# Altium footprint library Connectrors.PcbLib: 13 footprints
Each footprint in its own frame and in the unit in brackets; x right, y up, seen from the top. Pads: shape width x height; smd on the part's side, far side on the other; paste and mask are expansions set on the pad; w line width, h text height; cw(c..) or ccw(c..) is an arc to the next point about the centre after c.
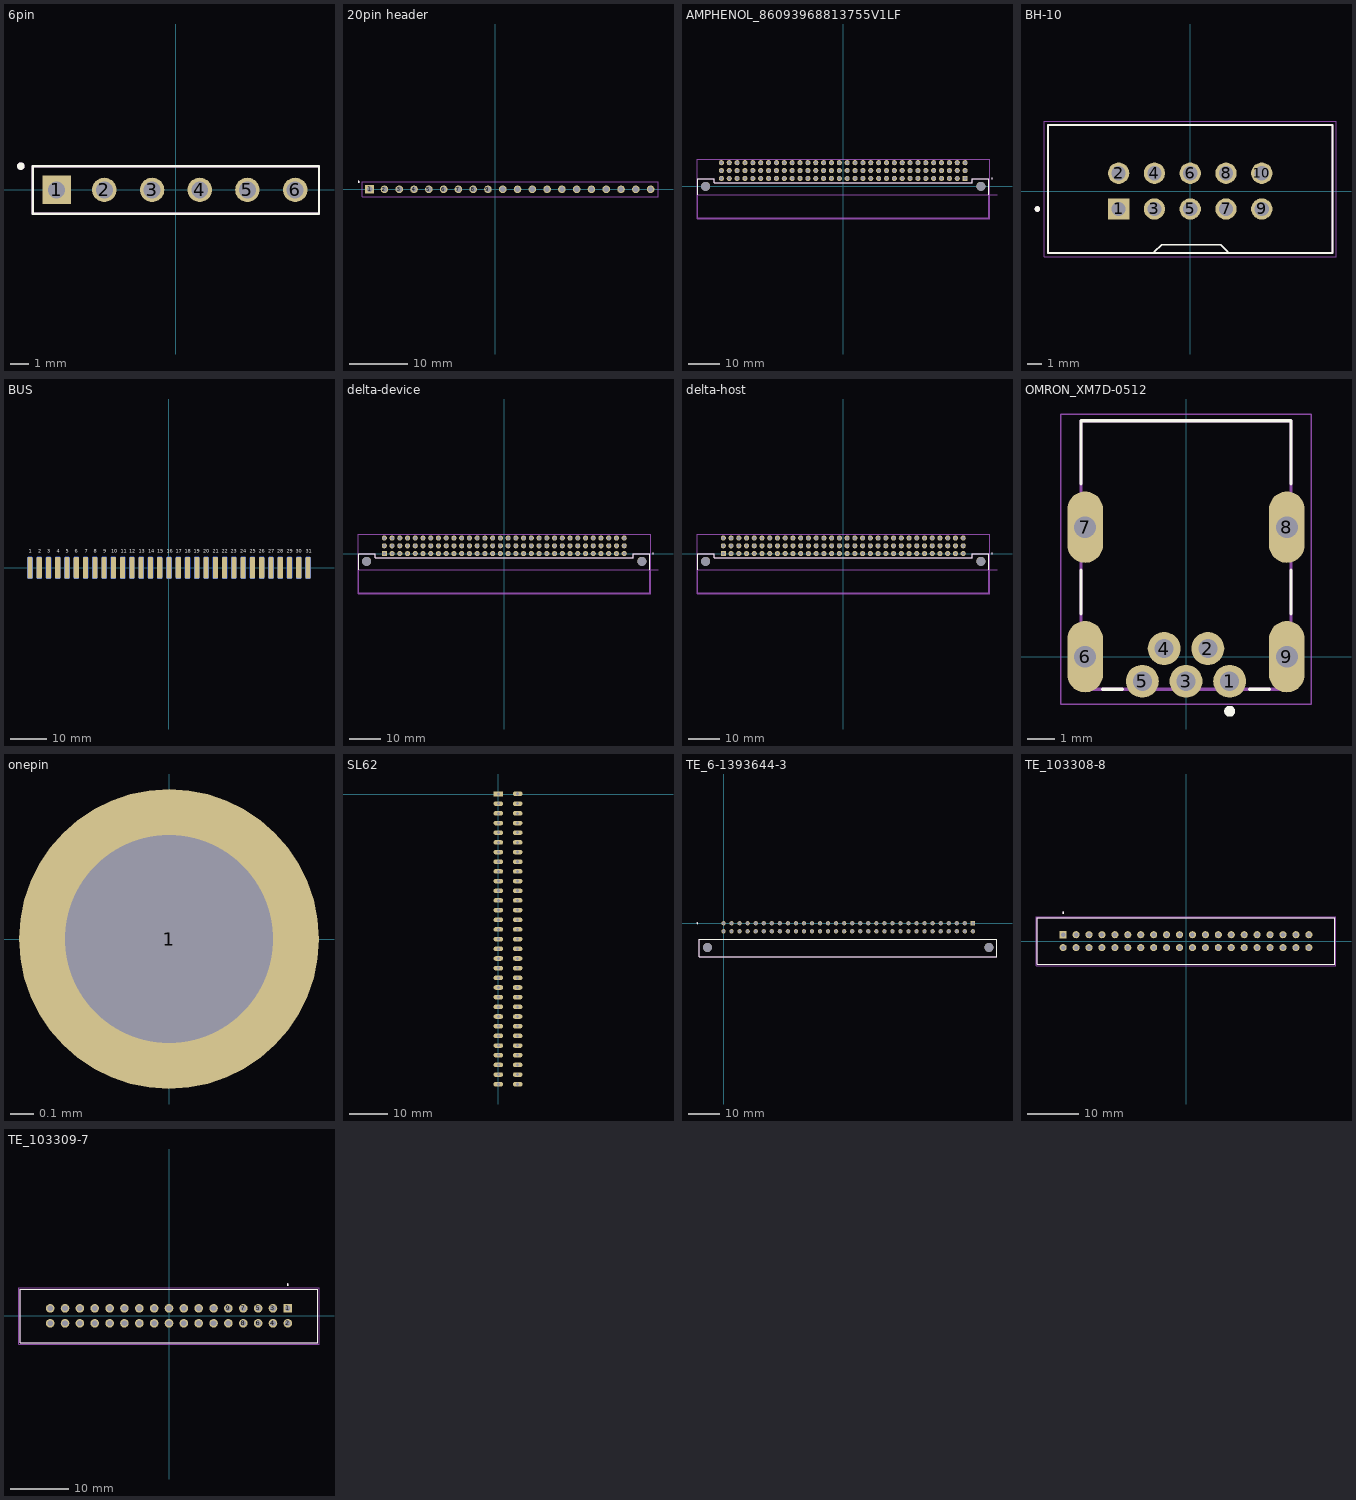
[diagram p0: the footprints below, top view; thin cyan lines are the x and y axes]

## 6pin [mm]
pads (6):
  rect 1.524x1.524 hole 0.9: 1(-6.35,0)
  round 1.3 hole 0.9: 2(-3.81,0) 3(-1.27,0) 4(1.27,0) 5(3.81,0) 6(6.35,0)
Top Overlay:
  circle w0.2: c-8.255,1.27 r0.1
  lines w0.127: -7.62,-1.27 7.62,-1.27 7.62,1.27 -7.62,1.27 -7.62,-1.27
Mechanical 13:
  circle w0.2: c-8.255,1.27 r0.1
  lines w0.127: -7.62,-1.27 7.62,-1.27 7.62,1.27 -7.62,1.27 -7.62,-1.27
Mechanical 15:
  lines w0.05: -7.62,-1.27 7.62,-1.27 7.62,1.27 -7.62,1.27 -7.62,-1.27

## 20pin header [mm]
pads (20):
  rect 1.524x1.524 hole 0.9: 1(-21.59,0)
  round 1.3 hole 0.9: 2(-19.05,0) 3(-16.51,0) 4(-13.97,0) 5(-11.43,0) 6(-8.89,0) 7(-6.35,0) 8(-3.81,0) 9(-1.27,0) 10(1.27,0) 11(3.81,0) 12(6.35,0) 13(8.89,0) 14(11.43,0) 15(13.97,0) 16(16.51,0) 17(19.05,0) 18(21.59,0) 19(24.13,0) 20(26.67,0)
Top Overlay:
  circle w0.2: c-23.495,1.27 r0.1
Bottom Overlay:
  lines w0.127: -22.86,-1.27 -22.86,1.27 27.94,1.27 27.94,-1.27 -22.86,-1.27
Mechanical 13:
  circle w0.2: c-23.495,1.27 r0.1
  lines w0.127: -22.86,-1.27 27.94,-1.27 27.94,1.27 -22.86,1.27 -22.86,-1.27
Mechanical 15:
  lines w0.05: 2.54,-1.27 17.78,-1.27 ; -22.86,-1.27 -22.86,1.27 27.94,1.27 27.94,-1.27 -22.86,-1.27
3D body "20pin_header.stp": height 0.98, standoff -10.7, extent -22.86,-1.27 27.94,1.27

## AMPHENOL_86093968813755V1LF [mm]
height 10.6
pads (98):
  rect 1.65x1.65 / inner round 1.65 / far side rect 1.65x1.65 hole 1.1: A1(39.37,2.54)
  round 1.65 hole 1.1: A2(36.83,2.54) A3(34.29,2.54) A4(31.75,2.54) A5(29.21,2.54) A6(26.67,2.54) A7(24.13,2.54) A8(21.59,2.54) A9(19.05,2.54) A10(16.51,2.54) A11(13.97,2.54) A12(11.43,2.54) A13(8.89,2.54) A14(6.35,2.54) A15(3.81,2.54) A16(1.27,2.54) A17(-1.27,2.54) A18(-3.81,2.54) A19(-6.35,2.54) A20(-8.89,2.54) A21(-11.43,2.54) A22(-13.97,2.54) A23(-16.51,2.54) A24(-19.05,2.54) A25(-21.59,2.54) A26(-24.13,2.54) A27(-26.67,2.54) A28(-29.21,2.54) A29(-31.75,2.54) A30(-34.29,2.54) A31(-36.83,2.54) A32(-39.37,2.54) B1(39.37,5.08) B2(36.83,5.08) B3(34.29,5.08) B4(31.75,5.08) B5(29.21,5.08) B6(26.67,5.08) B7(24.13,5.08) B8(21.59,5.08) B9(19.05,5.08) B10(16.51,5.08) B11(13.97,5.08) B12(11.43,5.08) B13(8.89,5.08) B14(6.35,5.08) B15(3.81,5.08) B16(1.27,5.08) B17(-1.27,5.08) B18(-3.81,5.08) B19(-6.35,5.08) B20(-8.89,5.08) B21(-11.43,5.08) B22(-13.97,5.08) B23(-16.51,5.08) B24(-19.05,5.08) B25(-21.59,5.08) B26(-24.13,5.08) B27(-26.67,5.08) B28(-29.21,5.08) B29(-31.75,5.08) B30(-34.29,5.08) B31(-36.83,5.08) B32(-39.37,5.08) C1(39.37,7.62) C2(36.83,7.62) C3(34.29,7.62) C4(31.75,7.62) C5(29.21,7.62) C6(26.67,7.62) C7(24.13,7.62) C8(21.59,7.62) C9(19.05,7.62) C10(16.51,7.62) C11(13.97,7.62) C12(11.43,7.62) C13(8.89,7.62) C14(6.35,7.62) C15(3.81,7.62) C16(1.27,7.62) C17(-1.27,7.62) C18(-3.81,7.62) C19(-6.35,7.62) C20(-8.89,7.62) C21(-11.43,7.62) C22(-13.97,7.62) C23(-16.51,7.62) C24(-19.05,7.62) C25(-21.59,7.62) C26(-24.13,7.62) C27(-26.67,7.62) C28(-29.21,7.62) C29(-31.75,7.62) C30(-34.29,7.62) C31(-36.83,7.62) C32(-39.37,7.62)
  round 2.9 hole 2.9 unplated: ""(-44.45,0) ""(44.45,0)
Top Overlay:
  circle w0.2: c48,2.54 r0.1
  lines w0.127: -47,-2.76 -47,2.5 -41.6,2.5 -41.6,1.2 41.6,1.2 41.6,2.5 47,2.5 47,-2.76
Mechanical 13:
  circle w0.2: c48,2.54 r0.1
  lines w0.127: 49.67,-2.76 -47,-2.76 ; -47,-2.76 -47,-10.2 47,-10.2 47,2.5 41.6,2.5 41.6,1.2 -41.6,1.2 -41.6,2.5 -47,2.5 -47,-2.76
  text "PCB Edge" at 47.5,-2.5 h0.81
Mechanical 15:
  lines w0.05: -47.25,-10.45 47.25,-10.45 47.25,8.695 -47.25,8.695 -47.25,-10.45
3D body "step_temp.STEP": height 9.15, standoff -2.97, extent -47.127,-9.906 46.873,7.939

## BH-10 [mm]
height 9.1
pads (10):
  rect 1.508x1.508 / inner round 1.508 / far side rect 1.508x1.508 hole 1: 1(-5.08,-1.27)
  round 1.508 hole 1: 2(-5.08,1.27) 3(-2.54,-1.27) 4(-2.54,1.27) 5(0,-1.27) 6(0,1.27) 7(2.54,-1.27) 8(2.54,1.27) 9(5.08,-1.27) 10(5.08,1.27)
Top Overlay:
  circle w0.2: c-10.85,-1.27 r0.1
  lines w0.127: -2.54,-4.318 -2.032,-3.81 -1.27,-3.81 1.27,-3.81 2.159,-3.81 2.667,-4.318 ; -10.1,-4.4 10.1,-4.4 10.1,4.7 -10.1,4.7 -10.1,-4.4
Mechanical 13:
  circle w0.2: c-10.85,-1.27 r0.1
  lines w0.127: -10.1,-4.4 10.1,-4.4 10.1,4.7 -10.1,4.7 -10.1,-4.4
Mechanical 15:
  lines w0.05: -10.35,-4.65 10.35,-4.65 10.35,4.95 -10.35,4.95 -10.35,-4.65
3D body "step_temp.STEP": height 9.09, standoff -3, extent -10.096,-4.394 10.096,4.699

## BUS [mm]
pads (62):
  rrect50% 1.4x6 smd: 1(-38.065,0) 2(-35.525,0) 3(-32.985,0) 4(-30.445,0) 5(-27.905,0) 6(-25.365,0) 7(-22.825,0) 8(-20.285,0) 9(-17.745,0) 10(-15.205,0) 11(-12.665,0) 12(-10.125,0) 13(-7.585,0) 14(-5.045,0) 15(-2.505,0) 16(0.035,0) 17(2.575,0) 18(5.115,0) 19(7.655,0) 20(10.195,0) 21(12.735,0) 22(15.275,0) 23(17.815,0) 24(20.355,0) 25(22.895,0) 26(25.435,0) 27(27.975,0) 28(30.515,0) 29(33.055,0) 30(35.595,0) 31(38.135,0)
  rrect50% 1.4x6 smd far side: 32(-38.06,0) 33(-35.525,0) 34(-32.985,0) 35(-30.445,0) 36(-27.905,0) 37(-25.365,0) 38(-22.825,0) 39(-20.285,0) 40(-17.745,0) 41(-15.205,0) 42(-12.665,0) 43(-10.125,0) 44(-7.585,0) 45(-5.045,0) 46(-2.505,0) 47(0.035,0) 48(2.575,0) 49(5.115,0) 50(7.655,0) 51(10.195,0) 52(12.735,0) 53(15.275,0) 54(17.815,0) 55(20.355,0) 56(22.895,0) 57(25.435,0) 58(27.975,0) 59(30.515,0) 60(33.055,0) 61(35.595,0) 62(38.135,0)
Top Overlay:
  text "17" at 1.905,4.064 h1
  text "18" at 4.318,4.064 h1
  text "20" at 9.398,4.064 h1
  text "19" at 6.858,4.064 h1
  text "23" at 17.018,4.064 h1
  text "24" at 19.558,4.064 h1
  text "22" at 14.478,4.064 h1
  text "21" at 12.065,4.064 h1
  text "29" at 32.258,4.064 h1
  text "30" at 34.798,4.064 h1
  text "31" at 37.465,4.064 h1
  text "27" at 27.178,4.064 h1
  text "28" at 29.718,4.064 h1
  text "26" at 24.638,4.064 h1
  text "25" at 22.098,4.064 h1
  text "9" at -18.034,4.064 h1
  text "10" at -15.748,4.064 h1
  text "12" at -10.795,4.064 h1
  text "11" at -13.208,4.064 h1
  text "15" at -3.175,4.064 h1
  text "16" at -0.635,4.064 h1
  text "14" at -5.715,4.064 h1
  text "13" at -8.255,4.064 h1
  text "5" at -28.194,4.064 h1
  text "6" at -25.781,4.064 h1
  text "8" at -20.574,4.064 h1
  text "7" at -23.114,4.064 h1
  text "3" at -33.274,4.064 h1
  text "4" at -30.734,4.064 h1
  text "2" at -35.814,4.064 h1
  text "1" at -38.354,4.064 h1
Bottom Overlay:
  text "25" at 23.749,4.064 h1
  text "28" at 31.369,4.064 h1
  text "22" at 16.129,4.064 h1
  text "19" at 8.255,4.064 h1
  text "12" at -9.271,4.064 h1
  text "31" at 38.735,4.064 h1
  text "30" at 36.449,4.064 h1
  text "29" at 33.909,4.064 h1
  text "26" at 26.289,4.064 h1
  text "27" at 28.829,4.064 h1
  text "24" at 21.209,4.064 h1
  text "23" at 18.669,4.064 h1
  text "21" at 13.462,4.064 h1
  text "20" at 11.049,4.064 h1
  text "16" at 0.889,4.064 h1
  text "17" at 3.302,4.064 h1
  text "13" at -6.731,4.064 h1
  text "14" at -4.318,4.064 h1
  text "15" at -1.651,4.064 h1
  text "11" at -12.065,4.064 h1
  text "10" at -14.351,4.064 h1
  text "7" at -22.479,4.064 h1
  text "8" at -19.939,4.064 h1
  text "4" at -30.099,4.064 h1
  text "3" at -32.639,4.064 h1
  text "18" at 5.715,4.064 h1
  text "9" at -17.399,4.064 h1
  text "6" at -25.146,4.064 h1
  text "5" at -27.559,4.064 h1
  text "2" at -35.179,4.064 h1
  text "1" at -37.973,4.064 h1

## delta-device [mm]
height 10.6
pads (98):
  rect 1.65x1.65 / inner round 1.65 / far side rect 1.65x1.65 hole 1.1: A1(-38.75,0)
  round 1.65 hole 1.1: A2(-36.25,0) A3(-33.75,0) A4(-31.25,0) A5(-28.75,0) A6(-26.25,0) A7(-23.75,0) A8(-21.25,0) A9(-18.75,0) A10(-16.25,0) A11(-13.75,0) A12(-11.25,0) A13(-8.75,0) A14(-6.25,0) A15(-3.75,0) A16(-1.27,0) A17(1.25,0) A18(3.75,0) A19(6.25,0) A20(8.75,0) A21(11.25,0) A22(13.75,0) A23(16.25,0) A24(18.75,0) A25(21.25,0) A26(23.75,0) A27(26.25,0) A28(28.75,0) A29(31.25,0) A30(33.75,0) A31(36.25,0) A32(38.75,0) B1(-38.75,2.5) B2(-36.25,2.5) B3(-33.75,2.5) B4(-31.25,2.5) B5(-28.75,2.5) B6(-26.25,2.5) B7(-23.75,2.5) B8(-21.25,2.5) B9(-18.75,2.5) B10(-16.25,2.5) B11(-13.75,2.5) B12(-11.25,2.5) B13(-8.75,2.5) B14(-6.25,2.5) B15(-3.75,2.5) B16(-1.25,2.5) B17(1.25,2.5) B18(3.75,2.5) B19(6.25,2.5) B20(8.75,2.5) B21(11.25,2.5) B22(13.75,2.5) B23(16.25,2.5) B24(18.75,2.5) B25(21.25,2.5) B26(23.75,2.5) B27(26.25,2.5) B28(28.75,2.5) B29(31.25,2.5) B30(33.75,2.5) B31(36.25,2.5) B32(38.75,2.5) C1(-38.75,5) C2(-36.25,5) C3(-33.75,5) C4(-31.25,5) C5(-28.75,5) C6(-26.25,5) C7(-23.75,5) C8(-21.25,5) C9(-18.75,5) C10(-16.25,5) C11(-13.75,5) C12(-11.25,5) C13(-8.75,5) C14(-6.25,5) C15(-3.75,5) C16(-1.25,5) C17(1.25,5) C18(3.75,5) C19(6.25,5) C20(8.75,5) C21(11.25,5) C22(13.75,5) C23(16.25,5) C24(18.75,5) C25(21.25,5) C26(23.75,5) C27(26.25,5) C28(28.75,5) C29(31.25,5) C30(33.75,5) C31(36.25,5) C32(38.75,5)
  round 2.9 hole 2.9 unplated: ""(-44.45,-2.5) ""(44.45,-2.5)
Top Overlay:
  circle w0.2: c48,0.04 r0.1
  lines w0.127: -47,-5.26 -47,0 -41.6,0 -41.6,-1.3 41.6,-1.3 41.6,0 47,0 47,-5.26
Mechanical 13:
  circle w0.2: c48,0.04 r0.1
  lines w0.127: 49.67,-5.26 -47,-5.26 ; -47,-5.26 -47,-12.7 47,-12.7 47,0 41.6,0 41.6,-1.3 -41.6,-1.3 -41.6,0 -47,0 -47,-5.26
  text "PCB Edge" at 47.5,-5 h0.81
Mechanical 15:
  lines w0.05: -47.25,-12.95 47.25,-12.95 47.25,6.195 -47.25,6.195 -47.25,-12.95
3D body "step_temp.STEP": height 9.15, standoff -2.97, extent -47.01,-12.566 46.99,5.28

## delta-host [mm]
height 10.6
pads (98):
  rect 1.65x1.65 / inner round 1.65 / far side rect 1.65x1.65 hole 1.1: A1(-38.75,0)
  round 1.65 hole 1.1: A2(-36.25,0) A3(-33.75,0) A4(-31.25,0) A5(-28.75,0) A6(-26.25,0) A7(-23.75,0) A8(-21.25,0) A9(-18.75,0) A10(-16.25,0) A11(-13.75,0) A12(-11.25,0) A13(-8.75,0) A14(-6.25,0) A15(-3.75,0) A16(-1.27,0) A17(1.25,0) A18(3.75,0) A19(6.25,0) A20(8.75,0) A21(11.25,0) A22(13.75,0) A23(16.25,0) A24(18.75,0) A25(21.25,0) A26(23.75,0) A27(26.25,0) A28(28.75,0) A29(31.25,0) A30(33.75,0) A31(36.25,0) A32(38.75,0) B1(-38.75,2.5) B2(-36.25,2.5) B3(-33.75,2.5) B4(-31.25,2.5) B5(-28.75,2.5) B6(-26.25,2.5) B7(-23.75,2.5) B8(-21.25,2.5) B9(-18.75,2.5) B10(-16.25,2.5) B11(-13.75,2.5) B12(-11.25,2.5) B13(-8.75,2.5) B14(-6.25,2.5) B15(-3.75,2.5) B16(-1.25,2.5) B17(1.25,2.5) B18(3.75,2.5) B19(6.25,2.5) B20(8.75,2.5) B21(11.25,2.5) B22(13.75,2.5) B23(16.25,2.5) B24(18.75,2.5) B25(21.25,2.5) B26(23.75,2.5) B27(26.25,2.5) B28(28.75,2.5) B29(31.25,2.5) B30(33.75,2.5) B31(36.25,2.5) B32(38.75,2.5) C1(-38.75,5) C2(-36.25,5) C3(-33.75,5) C4(-31.25,5) C5(-28.75,5) C6(-26.25,5) C7(-23.75,5) C8(-21.25,5) C9(-18.75,5) C10(-16.25,5) C11(-13.75,5) C12(-11.25,5) C13(-8.75,5) C14(-6.25,5) C15(-3.75,5) C16(-1.25,5) C17(1.25,5) C18(3.75,5) C19(6.25,5) C20(8.75,5) C21(11.25,5) C22(13.75,5) C23(16.25,5) C24(18.75,5) C25(21.25,5) C26(23.75,5) C27(26.25,5) C28(28.75,5) C29(31.25,5) C30(33.75,5) C31(36.25,5) C32(38.75,5)
  round 2.9 hole 2.9 unplated: ""(-44.45,-2.5) ""(44.45,-2.5)
Top Layer:
  text "Модель не доделана!" at -31.25,18.75 h10
Top Overlay:
  circle w0.2: c48,0.04 r0.1
  lines w0.127: -47,-5.26 -47,0 -41.6,0 -41.6,-1.3 41.6,-1.3 41.6,0 47,0 47,-5.26
Mechanical 13:
  circle w0.2: c48,0.04 r0.1
  lines w0.127: 49.67,-5.26 -47,-5.26 ; -47,-5.26 -47,-12.7 47,-12.7 47,0 41.6,0 41.6,-1.3 -41.6,-1.3 -41.6,0 -47,0 -47,-5.26
  text "PCB Edge" at 47.5,-5 h0.81
Mechanical 15:
  lines w0.05: -47.25,-12.95 47.25,-12.95 47.25,6.195 -47.25,6.195 -47.25,-12.95
3D body "step_temp.STEP": height 11.4, standoff -0.9, extent -47,-0.42 47,17.7

## OMRON_XM7D-0512 [mm]
pads (9):
  round 1.208 hole 0.7: 1(1.6,-0.9) 2(0.8,0.3) 3(0,-0.9) 4(-0.8,0.3) 5(-1.6,-0.9)
  oval 1.308x2.616 hole 0.8 square: 6(-3.7,0) 7(-3.7,4.75) 8(3.7,4.75) 9(3.7,0)
Top Overlay:
  circle w0.2: c1.6,-2 r0.1
  lines w0.127: -3.85,1.57 -3.85,3.18 ; -3.85,6.34 -3.85,8.65 3.85,8.65 3.85,6.34 ; -3.06,-1.2 -2.33,-1.2 ; 2.34,-1.2 3.05,-1.2 ; 3.85,1.57 3.85,3.18
Mechanical 13:
  lines w0.127: -3.85,-1.2 3.85,-1.2 3.85,8.65 -3.85,8.65 -3.85,-1.2
Mechanical 15:
  lines w0.05: -4.6,-1.75 -4.6,8.9 4.6,8.9 4.6,-1.75 -4.6,-1.75
3D body "XM7D-0512--3DModel-STEP-1.STEP": height 4, standoff -1.9, extent -4.05,-1.05 4.05,8.8

## onepin [mm]
pads (1):
  round 1.3 hole 0.9: 1(0,0)

## SL62 [mm]
pads (62):
  rect 2.5x1.2 hole 0.8: 1(0,0)
  oval 2.5x1.2 hole 0.8: 2(0,-2.54) 3(0,-5.08) 4(0,-7.62) 5(0,-10.16) 6(0,-12.7) 7(0,-15.24) 8(0,-17.78) 9(0,-20.32) 10(0,-22.86) 11(0,-25.4) 12(0,-27.94) 13(0,-30.48) 14(0,-33.02) 15(0,-35.56) 16(0,-38.1) 17(0,-40.64) 18(0,-43.18) 19(0,-45.72) 20(0,-48.26) 21(0,-50.8) 22(0,-53.34) 23(0,-55.88) 24(0,-58.42) 25(0,-60.96) 26(0,-63.5) 27(0,-66.04) 28(0,-68.58) 29(0,-71.12) 30(0,-73.66) 31(0,-76.2) 32(5.08,0.07) 33(5.08,-2.54) 34(5.08,-5.08) 35(5.08,-7.62) 36(5.08,-10.16) 37(5.08,-12.7) 38(5.08,-15.24) 39(5.08,-17.78) 40(5.08,-20.32) 41(5.08,-22.86) 42(5.08,-25.4) 43(5.08,-27.94) 44(5.08,-30.48) 45(5.08,-33.02) 46(5.08,-35.56) 47(5.08,-38.1) 48(5.08,-40.64) 49(5.08,-43.18) 50(5.08,-45.72) 51(5.08,-48.26) 52(5.08,-50.8) 53(5.08,-53.34) 54(5.08,-55.88) 55(5.08,-58.42) 56(5.08,-60.96) 57(5.08,-63.5) 58(5.08,-66.04) 59(5.08,-68.58) 60(5.08,-71.12) 61(5.08,-73.66) 62(5.08,-76.2)
3D body "5176138-2 SL62.STEP": height 16.13, standoff -2.67, extent -2.261,-80.772 7.214,4.572

## TE_6-1393644-3 [mm] "DIN41612R"
pads (66):
  rect 1.35x1.35 hole 1: 1(78.74,0)
  round 1.35 hole 1: 2(76.2,0) 3(73.66,0) 4(71.12,0) 5(68.58,0) 6(66.04,0) 7(63.5,0) 8(60.96,0) 9(58.42,0) 10(55.88,0) 11(53.34,0) 12(50.8,0) 13(48.26,0) 14(45.72,0) 15(43.18,0) 16(40.64,0) 17(38.1,0) 18(35.56,0) 19(33.02,0) 20(30.48,0) 21(27.94,0) 22(25.4,0) 23(22.86,0) 24(20.32,0) 25(17.78,0) 26(15.24,0) 27(12.7,0) 28(10.16,0) 29(7.62,0) 30(5.08,0) 31(2.54,0) 32(0,0) 33(78.74,-2.54) 34(76.2,-2.54) 35(73.66,-2.54) 36(71.12,-2.54) 37(68.58,-2.54) 38(66.04,-2.54) 39(63.5,-2.54) 40(60.96,-2.54) 41(58.42,-2.54) 42(55.88,-2.54) 43(53.34,-2.54) 44(50.8,-2.54) 45(48.26,-2.54) 46(45.72,-2.54) 47(43.18,-2.54) 48(40.64,-2.54) 49(38.1,-2.54) 50(35.56,-2.54) 51(33.02,-2.54) 52(30.48,-2.54) 53(27.94,-2.54) 54(25.4,-2.54) 55(22.86,-2.54) 56(20.32,-2.54) 57(17.78,-2.54) 58(15.24,-2.54) 59(12.7,-2.54) 60(10.16,-2.54) 61(7.62,-2.54) 62(5.08,-2.54) 63(2.54,-2.54) 64(0,-2.54)
  round 2.8 hole 2.8 unplated: ""(-5.08,-7.62) ""(83.82,-7.62)
Top Overlay:
  circle w0.2: c-8.28,0 r0.1
  lines w0.127: -7.63,-10.62 -7.63,-5.08 86.37,-5.08 86.37,-10.62 -7.63,-10.62
Mechanical 13:
  circle w0.2: c-8.28,0 r0.1
  lines w0.127: -7.63,-10.62 -7.63,-5.08 86.37,-5.08 86.37,-10.62 -7.63,-10.62
3D body "6-1393644-3 41614.stp": height 8.92, standoff -1.53, extent -7.63,-15.29 86.37,0.25

## TE_103308-8 [mil]
pads (40):
  rect 55x55 hole 35: 1(-950,50)
  round 55 hole 35: 2(-950,-50) 3(-850,50) 4(-850,-50) 5(-750,50) 6(-750,-50) 7(-650,50) 8(-650,-50) 9(-550,50) 10(-550,-50) 11(-450,50) 12(-450,-50) 13(-350,50) 14(-350,-50) 15(-250,50) 16(-250,-50) 17(-150,50) 18(-150,-50) 19(-50,50) 20(-50,-50) 21(50,50) 22(50,-50) 23(150,50) 24(150,-50) 25(250,50) 26(250,-50) 27(350,50) 28(350,-50) 29(450,50) 30(450,-50) 31(550,50) 32(550,-50) 33(650,50) 34(650,-50) 35(750,50) 36(750,-50) 37(850,50) 38(850,-50) 39(950,50) 40(950,-50)
Top Overlay:
  circle w7.87: c-950,219.37 r3.94
  lines w5: -1150,-180 1150,-180 1150,180 -1150,180 -1150,-180
Mechanical 13:
  circle w7.87: c-950,219.37 r3.94
  lines w5: -1150,-180 1150,-180 1150,180 -1150,180 -1150,-180
Mechanical 15:
  lines w1.97: -1159.84,-189.84 1159.84,-189.84 1159.84,189.84 -1159.84,189.84 -1159.84,-189.84
3D body "103308-8 BH40.stp": height 397.64, standoff -110.36, extent -1155,-180 1145,180

## TE_103309-7 [mil]
height 385.04
pads (34):
  rect 58x58 hole 38: 1(800,50)
  round 58 hole 38: 2(800,-50) 3(700,50) 4(700,-50) 5(600,50) 6(600,-50) 7(500,50) 8(500,-50) 9(400,50) 10(400,-50) 11(300,50) 12(300,-50) 13(200,50) 14(200,-50) 15(100,50) 16(100,-50) 17(0,50) 18(0,-50) 19(-100,50) 20(-100,-50) 21(-200,50) 22(-200,-50) 23(-300,50) 24(-300,-50) 25(-400,50) 26(-400,-50) 27(-500,50) 28(-500,-50) 29(-600,50) 30(-600,-50) 31(-700,50) 32(-700,-50) 33(-800,50) 34(-800,-50)
Top Overlay:
  circle w7.87: c800,210.63 r3.94
  lines w5: -1000,-180 1000,-180 1000,180 -1000,180 -1000,-180
Mechanical 13:
  circle w7.87: c800,210.63 r3.94
  lines w5: -1000,-180 1000,-180 1000,180 -1000,180 -1000,-180
Mechanical 15:
  lines w1.97: -1009.84,-189.84 1009.84,-189.84 1009.84,189.84 -1009.84,189.84 -1009.84,-189.84
3D body "DS1013-34S (IDC-34MS CONNFLY).step": height 366.14, standoff -129.92, extent -1003.54,-173.23 1003.54,177.16